# Altium schematic symbol library MP4021.SchLib: 1 symbol
Pins are listed as number, name and electrical type; pins without a type are passive.

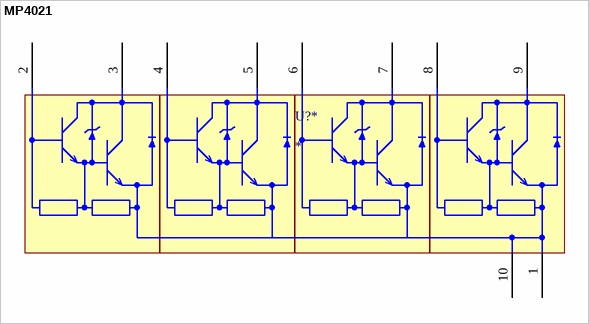
[diagram p0: symbol MP4021]

## MP4021
designator U?*
Darlington power transistor 4 in 1
footprint SIP-10
pins: 1 VEE, 2 B1, 3 VCC1, 4 B2, 5 VCC2, 6 B3, 7 VCC3, 8 B4, 9 VCC4, 10 VEE